# Altium footprint library XG_DW_POCT_2K10LED_V2.0_2024.11.151.PcbLib: 120 footprints (part 7 of 8)
Each footprint in its own frame and in the unit in brackets; x right, y up, seen from the top. Pads: shape width x height; smd on the part's side, far side on the other; paste and mask are expansions set on the pad; w line width, h text height; cw(c..) or ccw(c..) is an arc to the next point about the centre after c.
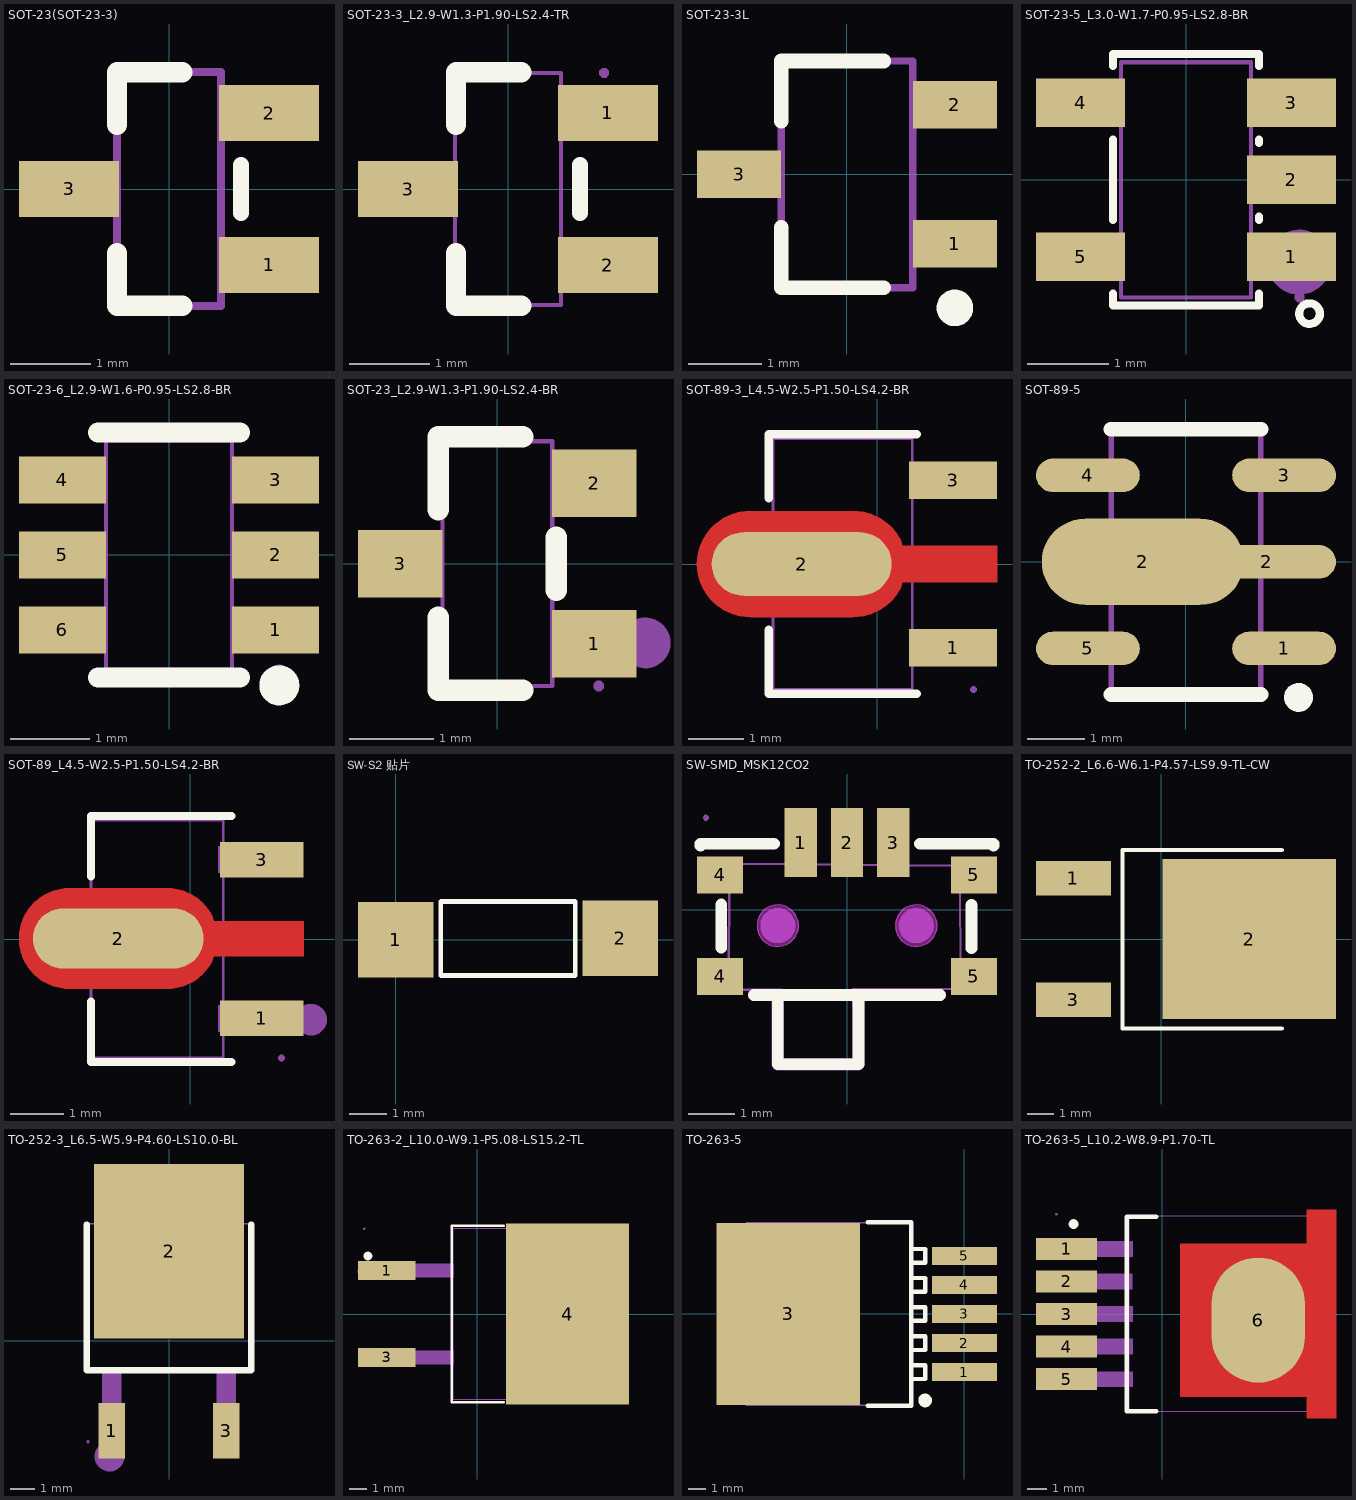
[diagram p6: the footprints below, top view; thin cyan lines are the x and y axes]

## SOT-23(SOT-23-3) [mm]
pads (3):
  rect 1.25x0.7 smd: 1(1.25,-0.95) 2(1.25,0.95) 3(-1.25,0)
Top Overlay:
  lines w0.2: 0.9,-0.3 0.9,0.3
  lines w0.254: -0.65,-0.8 -0.65,-1.46 0.165,-1.46 ; 0.165,1.46 -0.65,1.46 ; -0.65,0.8 -0.65,1.46 ; -0.65,0.8 -0.65,1.46 ; -0.65,0.8 -0.65,1.46
Mechanical 13:
  lines w0.1: -0.65,-1.46 -0.65,1.46 ; -0.65,-1.46 0.65,-1.46 ; -0.65,-1.46 -0.65,1.46 ; -0.65,-1.46 0.65,-1.46 ; -0.65,-1.46 0.65,-1.46 ; -0.65,-1.46 -0.65,1.46 ; -0.65,1.46 0.65,1.46 ; -0.65,1.46 0.65,1.46 ; -0.65,1.46 0.65,1.46 ; 0.65,-1.46 0.65,1.46 ; 0.65,-1.46 0.65,1.46 ; 0.65,-1.46 0.65,1.46
3D body "SOT-23.step": height 1.3, standoff 0, extent -1.5,-1.5 1.5,1.5

## SOT-23-3_L2.9-W1.3-P1.90-LS2.4-TR [mm]
pads (3):
  rect 1.25x0.7 smd: 1(1.25,0.95) 2(1.25,-0.95) 3(-1.25,0)
Top Overlay:
  lines w0.2: 0.9,-0.3 0.9,0.3
  lines w0.254: -0.65,-0.8 -0.65,-1.46 0.165,-1.46 ; 0.165,1.46 -0.65,1.46 ; -0.65,0.8 -0.65,1.46 ; -0.65,0.8 -0.65,1.46 ; -0.65,0.8 -0.65,1.46
Mechanical 6:
  circle w0.254: c1.496,0.945 r0.127
Mechanical 15:
  region: 1.26,1.45 1.26,1.425 1.225,1.39 1.175,1.39 1.14,1.425 1.14,1.45 1.14,1.475 1.175,1.51 1.225,1.51 1.26,1.475 1.26,1.45
  region: 0.628,-1.15 0.628,-0.75 1.01,-0.75 1.01,-1.15
  region: 1,-1.15 1,-0.75 1.2,-0.75 1.2,-1.15
  region: 0.628,0.75 0.628,1.15 1.01,1.15 1.01,0.75
  region: 1,0.75 1,1.15 1.2,1.15 1.2,0.75
  region: -1.01,-0.2 -1.01,0.2 -0.628,0.2 -0.628,-0.2
  region: -1.2,-0.2 -1.2,0.2 -1,0.2 -1,-0.2
  lines w0.051: -0.663,-1.45 -0.663,1.45 0.662,1.45 0.662,-1.45 -0.663,-1.45

## SOT-23-3L [mm] "http://www.aosmd.com/res"
height 1.25
pads (3):
  rect 1.15x0.65 smd: 1(1.475,-0.95) 2(1.475,0.95) 3(-1.475,0)
Top Overlay:
  circle w0.25: c1.475,-1.825 r0.125
  lines w0.2: -0.9,-0.725 -0.9,-1.55 0.5,-1.55 ; -0.9,0.725 -0.9,1.55 0.5,1.55
Mechanical 13:
  lines w0.1: -0.9,-1.55 0.9,-1.55 0.9,1.55 -0.9,1.55 -0.9,-1.55
3D body: height 1.25, standoff 0, extent -0.9,-1.55 0.9,1.55

## SOT-23-5_L3.0-W1.7-P0.95-LS2.8-BR [mm]
pads (5):
  rect 1.1x0.6 smd: 1(1.3,-0.95) 2(1.3,0) 3(1.3,0.95) 4(-1.3,0.95) 5(-1.3,-0.95)
Top Overlay:
  circle w0.1: c1.524,-1.651 r0.127
  lines w0.1: -0.9,-1.404 -0.9,-1.55 0.9,-1.55 0.9,-1.404 ; -0.9,-0.496 -0.9,0.496 ; -0.9,1.404 -0.9,1.55 0.9,1.55 0.9,1.404 ; 0.9,-0.496 0.9,-0.454 ; 0.9,0.454 0.9,0.496
Mechanical 6:
  circle w0.4: c1.397,-1.016 r0.2
Mechanical 15:
  region: -1.4,-1.15 -1.4,-0.75 -0.95,-0.75 -0.95,-1.15
  region: -0.96,-1.15 -0.96,-0.75 -0.79,-0.75 -0.79,-1.15
  region: -1.4,0.75 -1.4,1.15 -0.95,1.15 -0.95,0.75
  region: -0.96,0.75 -0.96,1.15 -0.79,1.15 -0.79,0.75
  region: 0.95,0.75 0.95,1.15 1.4,1.15 1.4,0.75
  region: 0.79,0.75 0.79,1.15 0.96,1.15 0.96,0.75
  region: 0.95,-0.2 0.95,0.2 1.4,0.2 1.4,-0.2
  region: 0.79,-0.2 0.79,0.2 0.96,0.2 0.96,-0.2
  region: 0.95,-1.15 0.95,-0.75 1.4,-0.75 1.4,-1.15
  region: 0.79,-1.15 0.79,-0.75 0.96,-0.75 0.96,-1.15
  region: 1.4,-1.39 1.375,-1.391 1.341,-1.426 1.341,-1.474 1.375,-1.51 1.4,-1.51 1.424,-1.51 1.459,-1.475 1.459,-1.426 1.424,-1.391 1.4,-1.39
  lines w0.051: -0.8,-1.45 -0.8,1.45 0.8,1.45 0.8,-1.45 -0.8,-1.45

## SOT-23-6_L2.9-W1.6-P0.95-LS2.8-BR [mm]
pads (6):
  rect 1.1x0.6 smd paste+0 mask+0.051: 1(1.35,-0.95) 2(1.35,0) 3(1.35,0.95) 4(-1.35,0.95) 5(-1.35,0) 6(-1.35,-0.95)
Top Overlay:
  circle w0.254: c1.397,-1.651 r0.127
  lines w0.254: -0.9,-1.55 0.9,-1.55 ; -0.9,1.55 0.9,1.55
Mechanical 6:
  circle w0.2: c1.4,-0.95 r0.1
Mechanical 15:
  region: 0.935,1.165 0.935,0.735 0.79,0.735 0.79,1.165
  region: 0.935,0.215 0.935,-0.215 0.79,-0.215 0.79,0.215
  region: 0.935,-0.735 0.935,-1.165 0.79,-1.165 0.79,-0.735
  region: -0.935,-1.165 -0.935,-0.735 -0.79,-0.735 -0.79,-1.165
  region: -0.935,-0.215 -0.935,0.215 -0.79,0.215 -0.79,-0.215
  region: 0.925,-1.165 0.925,-0.735 1.4,-0.735 1.4,-1.165
  region: 0.925,-0.215 0.925,0.215 1.4,0.215 1.4,-0.215
  region: 0.925,0.735 0.925,1.165 1.4,1.165 1.4,0.735
  region: -0.935,0.735 -0.935,1.165 -0.79,1.165 -0.79,0.735
  region: -0.925,0.735 -0.925,1.165 -1.4,1.165 -1.4,0.735
  region: -0.925,-0.215 -0.925,0.215 -1.4,0.215 -1.4,-0.215
  region: -0.925,-1.165 -0.925,-0.735 -1.4,-0.735 -1.4,-1.165
  region: 1.46,-1.45 1.46,-1.475 1.425,-1.51 1.375,-1.51 1.34,-1.475 1.34,-1.45 1.34,-1.425 1.375,-1.39 1.425,-1.39 1.46,-1.425 1.46,-1.45
  lines w0.051: -0.8,-1.45 0.8,-1.45 0.8,1.45 -0.8,1.45 -0.8,-1.45

## SOT-23_L2.9-W1.3-P1.90-LS2.4-BR [mm]
pads (3):
  rect 1x0.8 smd: 1(1.15,-0.95) 2(1.15,0.95) 3(-1.15,0)
Top Overlay:
  lines w0.254: -0.7,-0.636 -0.7,-1.5 0.3,-1.5 ; -0.7,0.636 -0.7,1.5 0.3,1.5 ; 0.7,-0.314 0.7,0.314
Mechanical 6:
  circle w0.3: c1.753,-0.94 r0.15
Mechanical 15:
  region: 1.26,-1.45 1.26,-1.475 1.225,-1.51 1.175,-1.51 1.14,-1.475 1.14,-1.45 1.14,-1.425 1.175,-1.39 1.225,-1.39 1.26,-1.425 1.26,-1.45
  region: 0.64,-1.15 0.64,-0.75 0.81,-0.75 0.81,-1.15
  region: 0.8,-1.15 0.8,-0.75 1.2,-0.75 1.2,-1.15
  region: 0.64,0.75 0.64,1.15 0.81,1.15 0.81,0.75
  region: 0.8,0.75 0.8,1.15 1.2,1.15 1.2,0.75
  region: -0.81,-0.2 -0.81,0.2 -0.64,0.2 -0.64,-0.2
  region: -1.2,-0.2 -1.2,0.2 -0.8,0.2 -0.8,-0.2
  lines w0.051: -0.65,-1.45 -0.65,1.45 0.65,1.45 0.65,-1.45 -0.65,-1.45

## SOT-89-3_L4.5-W2.5-P1.50-LS4.2-BR [mm]
pads (3):
  rect 1.575x0.672 smd: 1(1.356,-1.5) 3(1.356,1.5)
  oval 3.226x1.14 smd: 2(-1.356,0)
Top Layer:
  region: -2.283,0.95 -0.429,0.95 -0.384,0.949 -0.34,0.946 -0.296,0.94 -0.252,0.933 -0.208,0.924 -0.165,0.912 -0.123,0.899 -0.081,0.884 -0.04,0.866 0,0.847 0.04,0.826 0.078,0.803 0.115,0.779 0.151,0.752 0.185,0.724 0.219,0.695 0.251,0.664 0.281,0.631 0.31,0.597 0.337,0.562 0.362,0.525 0.386,0.488 0.408,0.449 0.428,0.409 0.447,0.33 2.144,0.33 2.144,-0.33 0.447,-0.33 0.428,-0.409 0.408,-0.449 0.386,-0.488 0.362,-0.526 0.337,-0.562 0.31,-0.597 0.281,-0.631 0.251,-0.664 0.219,-0.695 0.185,-0.725 0.151,-0.753 0.115,-0.779 0.078,-0.804 0.04,-0.827 0,-0.848 -0.04,-0.867 -0.081,-0.884 -0.123,-0.899 -0.165,-0.913 -0.208,-0.924 -0.252,-0.934 -0.296,-0.941 -0.34,-0.946 -0.384,-0.949 -0.429,-0.95 -2.283,-0.95 -2.328,-0.949 -2.372,-0.946 -2.416,-0.941 -2.46,-0.934 -2.504,-0.924 -2.547,-0.913 -2.589,-0.899 -2.631,-0.884 -2.672,-0.867 -2.713,-0.848 -2.752,-0.827 -2.79,-0.804 -2.827,-0.779 -2.863,-0.753 -2.898,-0.725 -2.931,-0.695 -2.963,-0.664 -2.993,-0.631 -3.022,-0.597 -3.049,-0.562 -3.075,-0.526 -3.098,-0.488 -3.12,-0.449 -3.141,-0.409 -3.159,-0.369 -3.175,-0.327 -3.189,-0.285 -3.202,-0.242 -3.212,-0.199 -3.22,-0.155 -3.227,-0.111 -3.231,-0.067 -3.233,-0.022 -3.233,0.022 -3.231,0.067 -3.227,0.111 -3.22,0.155 -3.212,0.199 -3.202,0.242 -3.189,0.285 -3.175,0.327 -3.159,0.369 -3.141,0.409 -3.12,0.449 -3.098,0.488 -3.075,0.525 -3.049,0.562 -3.022,0.597 -2.993,0.631 -2.963,0.664 -2.931,0.695 -2.898,0.724 -2.863,0.752 -2.827,0.779 -2.79,0.803 -2.752,0.826 -2.713,0.847 -2.672,0.866 -2.631,0.884 -2.589,0.899 -2.547,0.912 -2.504,0.924 -2.46,0.933 -2.416,0.94 -2.372,0.946 -2.328,0.949
Top Overlay:
  lines w0.152: -1.95,-1.177 -1.95,-2.326 0.702,-2.326 ; -1.95,1.177 -1.95,2.326 0.702,2.326
Mechanical 6:
  circle w0.3: c1.715,-1.5 r0.15
Mechanical 15:
  region: 1.784,-2.25 1.783,-2.226 1.748,-2.192 1.7,-2.192 1.665,-2.226 1.664,-2.25 1.665,-2.274 1.7,-2.308 1.748,-2.308 1.783,-2.274 1.784,-2.25
  region: 0.439,-0.26 1.724,-0.26 1.724,0.26 0.439,0.26 -0.136,0.863 -2,0.863 -2.471,0.288 -2.471,-0.287 -2,-0.862 -0.136,-0.862
  region: 0.624,-1.25 1.724,-1.25 1.724,-1.75 0.624,-1.75
  region: 0.624,1.75 1.724,1.75 1.724,1.25 0.624,1.25
  lines w0.051: -1.874,-2.25 -1.874,2.25 0.626,2.25 0.626,-2.25 -1.874,-2.25

## SOT-89-5 [mm]
height 7.7
pads (6):
  oval 1.8x0.58 smd: 1(1.7,-1.5) 3(1.7,1.5) 4(-1.7,1.5) 5(-1.7,-1.5)
  oval 3.5x1.5 smd: 2(-0.75,0)
  oval 2.4x0.58 smd: 2(1.4,0)
Top Overlay:
  circle w0.25: c1.95,-2.35 r0.125
  lines w0.254: -1.3,-2.3 1.3,-2.3 ; -1.3,2.3 1.3,2.3
Mechanical 13:
  lines w0.1: -1.295,-2.3 1.295,-2.3 1.295,2.3 -1.295,2.3 -1.295,-2.3
3D body "SOT-89-5.STEP": height 1.5, standoff 0, extent -2.175,-2.25 2.175,2.25

## SOT-89_L4.5-W2.5-P1.50-LS4.2-BR [mm]
pads (3):
  rect 1.575x0.672 smd: 1(1.356,-1.5) 3(1.356,1.5)
  oval 3.226x1.14 smd: 2(-1.356,0.009)
Top Layer:
  region: -2.283,0.959 -0.429,0.959 -0.385,0.958 -0.34,0.955 -0.296,0.949 -0.252,0.942 -0.208,0.933 -0.165,0.921 -0.123,0.908 -0.081,0.893 -0.04,0.875 0,0.856 0.04,0.835 0.078,0.812 0.115,0.788 0.151,0.761 0.185,0.733 0.219,0.704 0.251,0.673 0.281,0.64 0.31,0.606 0.337,0.571 0.362,0.534 0.386,0.497 0.408,0.458 0.428,0.418 0.447,0.339 2.144,0.339 2.144,-0.321 0.447,-0.321 0.428,-0.401 0.408,-0.44 0.386,-0.479 0.362,-0.517 0.337,-0.553 0.31,-0.588 0.281,-0.622 0.251,-0.655 0.219,-0.686 0.185,-0.716 0.151,-0.744 0.115,-0.77 0.078,-0.795 0.04,-0.818 0,-0.839 -0.04,-0.858 -0.081,-0.875 -0.123,-0.89 -0.165,-0.904 -0.208,-0.915 -0.252,-0.925 -0.296,-0.932 -0.34,-0.937 -0.385,-0.94 -0.429,-0.941 -2.283,-0.941 -2.328,-0.94 -2.372,-0.937 -2.416,-0.932 -2.46,-0.925 -2.504,-0.915 -2.547,-0.904 -2.589,-0.89 -2.631,-0.875 -2.672,-0.858 -2.713,-0.839 -2.752,-0.818 -2.79,-0.795 -2.827,-0.77 -2.863,-0.744 -2.898,-0.716 -2.931,-0.686 -2.963,-0.655 -2.993,-0.622 -3.022,-0.588 -3.049,-0.553 -3.075,-0.517 -3.098,-0.479 -3.12,-0.44 -3.141,-0.401 -3.159,-0.36 -3.175,-0.318 -3.189,-0.276 -3.202,-0.233 -3.212,-0.19 -3.22,-0.146 -3.227,-0.102 -3.231,-0.058 -3.233,-0.013 -3.233,0.031 -3.231,0.076 -3.227,0.12 -3.22,0.164 -3.212,0.208 -3.202,0.251 -3.189,0.294 -3.175,0.336 -3.159,0.377 -3.141,0.418 -3.12,0.458 -3.098,0.497 -3.075,0.534 -3.049,0.571 -3.022,0.606 -2.993,0.64 -2.963,0.673 -2.931,0.704 -2.898,0.733 -2.863,0.761 -2.827,0.788 -2.79,0.812 -2.752,0.835 -2.713,0.856 -2.672,0.875 -2.631,0.893 -2.589,0.908 -2.547,0.921 -2.504,0.933 -2.46,0.942 -2.416,0.949 -2.372,0.955 -2.328,0.958
Top Overlay:
  lines w0.152: -1.871,-1.177 -1.871,-2.326 0.781,-2.326 ; -1.871,1.177 -1.871,2.326 0.781,2.326
Mechanical 6:
  circle w0.3: c2.286,-1.524 r0.15
Mechanical 15:
  region: 1.789,-2.25 1.789,-2.225 1.754,-2.19 1.704,-2.19 1.669,-2.225 1.669,-2.25 1.669,-2.275 1.704,-2.31 1.754,-2.31 1.789,-2.275 1.789,-2.25
  region: 0.439,-0.26 1.724,-0.26 1.724,0.26 0.439,0.26 -0.136,0.863 -1.796,0.863 -2.371,0.288 -2.371,-0.287 -1.796,-0.862 -0.136,-0.862
  region: 0.529,-1.25 1.729,-1.25 1.729,-1.75 0.529,-1.75
  region: 0.529,1.75 1.729,1.75 1.729,1.25 0.529,1.25
  lines w0.051: -1.871,-2.25 -1.871,2.25 0.629,2.25 0.629,-2.25 -1.871,-2.25

## SW-S2 贴片 [mm]
height 7.7
pads (2):
  rect 2x2 smd: 1(0,0) 2(5.944,0.051)
Top Overlay:
  lines w0.127: 1.194,-0.94 1.194,1.016 4.75,1.016 4.75,-0.94 1.194,-0.94

## SW-SMD_MSK12CO2 [mm]
pads (7):
  rect 0.7x1.5 smd: 1(-1,1.45) 2(0,1.45) 3(1,1.45)
  rect 1x0.8 smd: 4(-2.75,-1.45) 4(-2.75,0.75) 5(2.75,-1.45) 5(2.75,0.75)
Top Overlay:
  lines w0.254: -3.175,1.382 -3.175,1.427 -1.582,1.427 ; -2.723,-0.828 -2.723,0.11 ; -2.019,-1.85 -1.638,-1.85 0.25,-1.85 ; -1.5,-1.9 -1.5,-3.35 0.25,-3.35 0.25,-1.85 ; 1.581,1.428 3.175,1.428 3.175,1.381 ; 2.019,-1.85 0.25,-1.85 ; 2.695,-0.838 2.695,0.1
Keep-Out Layer:
  board cut-out: 1.95,-0.35 1.95,-0.44 1.882,-0.605 1.755,-0.732 1.59,-0.8 1.411,-0.8 1.245,-0.732 1.119,-0.605 1.05,-0.44 1.05,-0.35 1.05,-0.26 1.119,-0.095 1.245,0.031 1.411,0.1 1.59,0.1 1.755,0.031 1.882,-0.095 1.95,-0.26 1.95,-0.35
  board cut-out: -1.05,-0.35 -1.05,-0.44 -1.118,-0.605 -1.245,-0.732 -1.41,-0.8 -1.589,-0.8 -1.755,-0.732 -1.881,-0.605 -1.95,-0.44 -1.95,-0.35 -1.95,-0.26 -1.881,-0.095 -1.755,0.031 -1.589,0.1 -1.41,0.1 -1.245,0.031 -1.118,-0.095 -1.05,-0.26 -1.05,-0.35
Keep-Out Layer:
  circle w0.025: c1.5,-0.35 r0.45
  circle w0.025: c-1.5,-0.35 r0.45
  region: 1.95,-0.35 1.95,-0.44 1.882,-0.605 1.755,-0.732 1.59,-0.8 1.411,-0.8 1.245,-0.732 1.119,-0.605 1.05,-0.44 1.05,-0.35 1.05,-0.26 1.119,-0.095 1.245,0.031 1.411,0.1 1.59,0.1 1.755,0.031 1.882,-0.095 1.95,-0.26 1.95,-0.35
  region: -1.05,-0.35 -1.05,-0.44 -1.118,-0.605 -1.245,-0.732 -1.41,-0.8 -1.589,-0.8 -1.755,-0.732 -1.881,-0.605 -1.95,-0.44 -1.95,-0.35 -1.95,-0.26 -1.881,-0.095 -1.755,0.031 -1.589,0.1 -1.41,0.1 -1.245,0.031 -1.118,-0.095 -1.05,-0.26 -1.05,-0.35
Mechanical 1:
  circle w0.025: c1.5,-0.35 r0.45
  circle w0.025: c-1.5,-0.35 r0.45
Mechanical 6:
  circle w0.38: c-1.5,-0.35 r0.19
  circle w0.38: c1.5,-0.35 r0.19
  region: 0.377,-1.85 0.377,-3.35 0.377,-3.375 0.358,-3.422 0.322,-3.458 0.275,-3.477 0.25,-3.477 -1.5,-3.477 -1.525,-3.477 -1.572,-3.458 -1.608,-3.422 -1.627,-3.375 -1.627,-3.35 -1.627,-1.9 -1.627,-1.847 -1.553,-1.773 -1.447,-1.773 -1.373,-1.847 -1.373,-1.9 -1.373,-3.223 0.123,-3.223 0.123,-1.85 0.123,-1.797 0.197,-1.723 0.303,-1.723 0.377,-1.797 0.377,-1.85
Mechanical 15:
  region: -1.2,1.989 -0.8,1.989 -0.8,0.8 -1.2,0.8
  region: -0.2,1.989 0.2,1.989 0.2,0.8 -0.2,0.8
  region: 0.8,1.989 1.2,1.989 1.2,0.8 0.8,0.8
  region: 2.96,0.55 2.41,0.55 2.41,0.95 2.96,0.95
  region: 2.96,-1.65 2.41,-1.65 2.41,-1.25 2.96,-1.25
  region: -3.06,0.95 -2.51,0.95 -2.51,0.55 -3.06,0.55
  region: -3.06,-1.25 -2.51,-1.25 -2.51,-1.65 -3.06,-1.65
  region: -3,1.989 -3,1.964 -3.035,1.929 -3.085,1.929 -3.12,1.964 -3.12,1.989 -3.12,2.013 -3.085,2.049 -3.035,2.049 -3,2.013 -3,1.989
  lines w0.051: -2.56,-1.741 -2.55,0.989 2.45,0.95 2.46,-1.721 0.12,-1.721 0.13,-1.731 0.15,-3.25 0.1,-3.251 -1.42,-3.251 -1.41,-3.241 -1.41,-1.741 -2.56,-1.741

## TO-252-2_L6.6-W6.1-P4.57-LS9.9-TL-CW [mm]
pads (3):
  rect 2.8x1.3 smd: 1(-3.292,2.273) 3(-3.292,-2.273)
  rect 6.5x6 smd: 2(3.292,0)
Top Overlay:
  lines w0.152: 4.511,-3.353 -1.456,-3.353 -1.456,3.34 4.511,3.34
Mechanical 15:
  circle w0.6: c-4.013,2.286 r0.3

## TO-252-3_L6.5-W5.9-P4.60-LS10.0-BL [mm]
pads (3):
  rect 1.064x2.218 smd: 1(-2.3,-3.599) 3(2.3,-3.599)
  rect 6x7 smd: 2(0,3.599)
Top Overlay:
  lines w0.254: -3.302,4.671 -3.302,-1.171 3.302,-1.171 3.302,4.671
Mechanical 6:
  circle w0.6: c-2.388,-4.638 r0.3
Mechanical 15:
  region: 2.675,-1.15 2.675,-2.554 1.925,-2.554 1.925,-1.15
  region: -1.925,-1.15 -1.925,-2.554 -2.675,-2.554 -2.675,-1.15
  region: -1.975,-2.55 -1.975,-4.05 -2.625,-4.05 -2.625,-2.55
  region: 2.625,-2.55 2.625,-4.05 1.975,-4.05 1.975,-2.55
  region: -2.65,5.95 2.65,5.95 2.65,0.25 -2.65,0.25
  region: -3.19,-4.05 -3.19,-4.025 -3.225,-3.99 -3.275,-3.99 -3.31,-4.025 -3.31,-4.05 -3.31,-4.075 -3.275,-4.11 -3.225,-4.11 -3.19,-4.075 -3.19,-4.05
  lines w0.051: -3.25,-1.2 3.25,-1.2 3.25,4.7 -3.25,4.7 -3.25,-1.2

## TO-263-2_L10.0-W9.1-P5.08-LS15.2-TL [mil]
pads (3):
  rect 132.23x44.65 smd: 1(-208.1,100) 3(-208.1,-100)
  rect 282.7x416 smd: 4(208.1,0)
Top Overlay:
  circle w10: c-251.37,133.38 r5
  lines w6: 60.75,-203 -58.3,-203 -58.3,203 60.75,203
Mechanical 6:
  circle w10: c-265.44,98.08 r5
Mechanical 15:
  region: -257.55,196.19 -257.55,197.17 -258.93,198.55 -260.88,198.55 -262.27,197.17 -262.27,196.19 -262.27,195.21 -260.89,193.83 -258.93,193.83 -257.55,195.21 -257.55,196.19
  region: -261.09,84.06 -261.09,115.94 -161.09,115.94 -161.09,84.06
  region: -161.78,84.06 -161.78,115.94 -54.3,115.94 -54.3,84.06
  region: -261.09,-115.94 -261.09,-84.06 -161.09,-84.06 -161.09,-115.94
  region: -161.78,-115.94 -161.78,-84.06 -54.3,-84.06 -54.3,-115.94
  region: 66.75,-200 66.75,200 297.23,200 337.23,160 337.23,-160 297.23,-200
  lines w2: -54.73,-196.33 -54.73,197.37 303.53,197.37 303.53,-196.33 -54.73,-196.33

## TO-263-5 [mm]
pads (6):
  rect 3.8x1.05 smd: 1(0,-3.4) 2(0,-1.7) 3(0,0) 4(0,1.7) 5(0,3.4)
  rect 8.4x10.65 smd: 3(-10.3,0)
Top Overlay:
  circle w0.4: c-2.3,-5.05 r0.2
  lines w0.254: -5.65,-5.35 -3.1,-5.35 -3.1,5.35 -5.65,5.35 ; -3.1,-3 -2.3,-3 -2.3,-3.8 -3,-3.8 ; -3.1,-1.3 -2.3,-1.3 -2.3,-2.1 -3,-2.1 ; -3.1,0.4 -2.3,0.4 -2.3,-0.4 -3,-0.4 ; -3.1,2.1 -2.3,2.1 -2.3,1.3 -3,1.3 ; -3.1,3.8 -2.3,3.8 -2.3,3 -3,3
Mechanical 13:
  lines w0.1: -12.75,-5.325 -12.75,5.325 -3.1,5.325 -3.1,-5.325 -12.75,-5.325

## TO-263-5_L10.2-W8.9-P1.70-TL [mm]
pads (6):
  rect 3.2x1.15 smd: 1(-5.008,3.404) 2(-5.008,1.702) 3(-5.008,0) 4(-5.008,-1.702) 5(-5.008,-3.404)
  oval 4.877x6.553 smd: 6(5.008,-0.318)
Top Layer:
  region: 0.944,3.683 7.548,3.683 7.548,5.461 9.072,5.461 9.072,-5.461 7.548,-5.461 7.548,-4.317 0.944,-4.317
Top Overlay:
  circle w0.254: c-4.644,4.699 r0.127
  lines w0.254: -0.326,-5.08 -1.863,-5.08 -1.863,5.08 -0.326,5.08
Mechanical 6:
  circle w0.3: c-6.018,3.388 r0.15
Mechanical 15:
  region: -4.359,3.003 -4.359,3.803 -1.559,3.803 -1.559,3.003
  region: -4.37,1.297 -4.37,2.097 -1.57,2.097 -1.57,1.297
  region: -4.343,-0.395 -4.343,0.405 -1.543,0.405 -1.543,-0.395
  region: -4.353,-2.103 -4.353,-1.303 -1.553,-1.303 -1.553,-2.103
  region: -4.347,-3.81 -4.347,-3.01 -1.547,-3.01 -1.547,-3.81
  region: 7.929,5.207 8.691,5.207 8.691,-5.207 7.929,-5.207 7.929,-3.429 6.024,-3.429 6.024,-3.937 6.024,-4.064 1.325,-4.064 1.325,3.556 6.024,3.556 6.024,3.048 7.929,3.048
  region: -5.543,-3.004 -4.273,-3.004 -4.273,-3.804 -5.543,-3.804
  region: -5.543,-1.302 -4.273,-1.302 -4.273,-2.102 -5.543,-2.102
  region: -5.543,2.102 -4.273,2.102 -4.273,1.302 -5.543,1.302
  region: -5.543,0.4 -4.273,0.4 -4.273,-0.4 -5.543,-0.4
  region: -5.543,3.803 -4.273,3.803 -4.273,3.003 -5.543,3.003
  region: -5.483,5.207 -5.484,5.231 -5.518,5.265 -5.567,5.265 -5.602,5.231 -5.603,5.207 -5.602,5.183 -5.567,5.149 -5.518,5.149 -5.484,5.183 -5.483,5.207
  lines w0.051: -1.723,-5.08 8.677,-5.08 8.677,5.14 -1.723,5.14 -1.723,-5.08